# Altium schematic symbol library IP5328P BMS.SchLib: 26 symbols
Pins are listed as number, name and electrical type; pins without a type are passive.

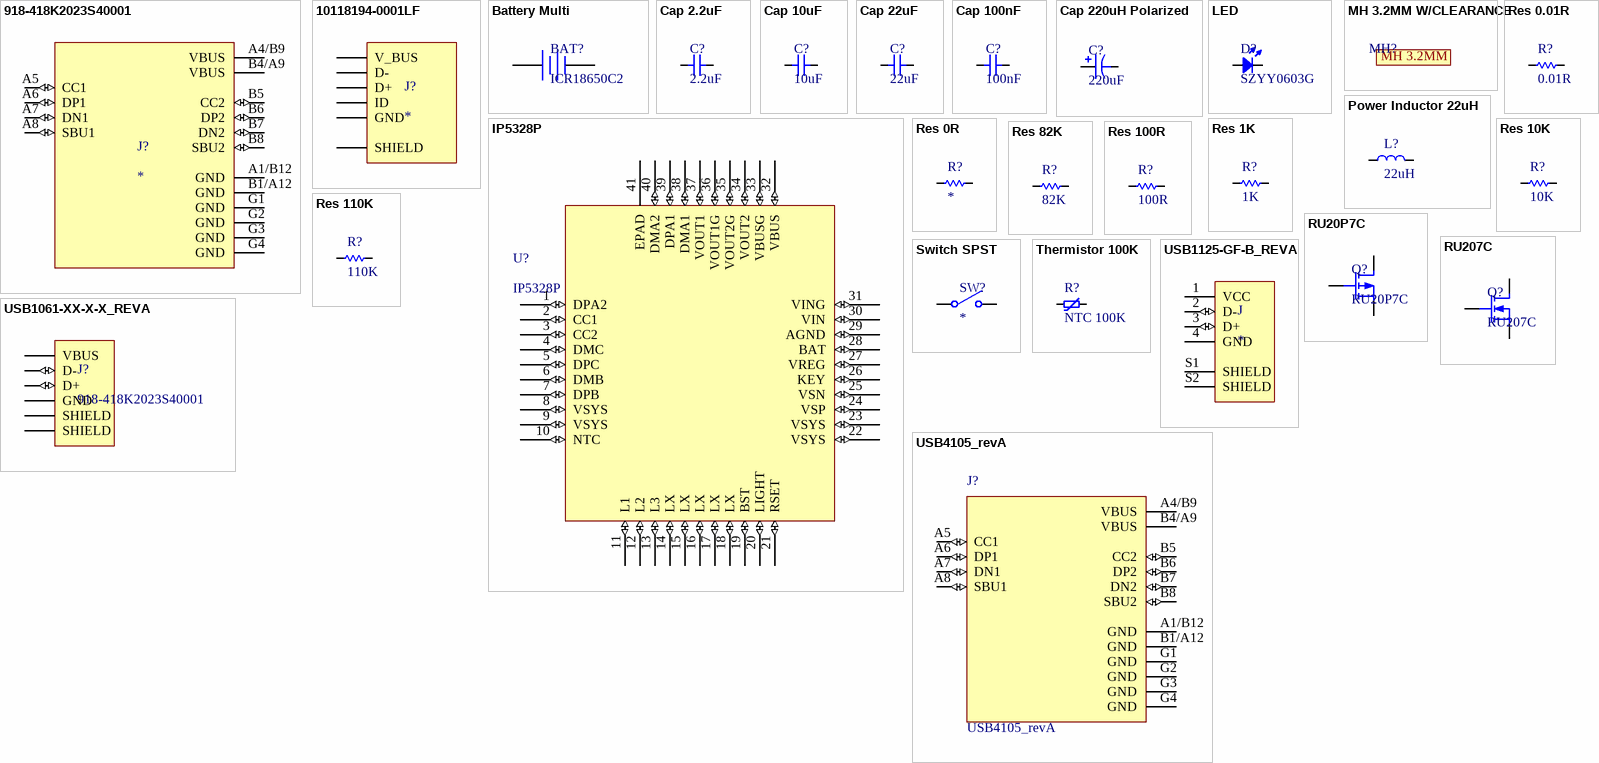
[diagram p0: symbols 918-418K2023S40001 to USB4105_revA]

## 918-418K2023S40001
designator J?
3A 1 16 Female Type-C SMD USB Connectors ROHS; Mfg: Jing Extension of the Electronic Co.; Mfg PN: 918-418K2023S40001; Vendor: JLCPCB; Vendor PN: C167321
footprint 918-418K2023S40001
pins: A1/B12 GND (power), A4/B9 VBUS (power), A5 CC1 (io), A6 DP1 (io), A7 DN1 (io), A8 SBU1 (io), B1/A12 GND (power), B4/A9 VBUS (power), B5 CC2 (io), B6 DP2 (io), B7 DN2 (io), B8 SBU2 (io), G1 GND (power), G2 GND (power), G3 GND (power), G4 GND (power)

## 10118194-0001LF
designator J?
USB - micro B USB 2.0 Receptacle Connector 5 Position Surface Mount, Right Angle; Through Hole; MF: Amphenol ICC; MP: 10118194-0001LF; Package: None; Price: None; Availability: Unavailable; SnapEDA_Link: https://www.snapeda.com/parts/10118194-0001LF/Amphenol%20FCI/view-part/1413308/?ref=snap; Value: *
footprint AMPHENOL_10118194-0001LF
pins: 1 V_BUS, 2 D-, 3 D+, 4 ID, 5 GND, S1 SHIELD

## Battery Multi
designator BAT?, comment ICR18650C2
Lithium Ion ICR18650 C2 2800mAh
footprint Battery Wire Pads
pins: 1 +, 2 -

## Cap 2.2uF
designator C?, comment 2.2uF
25V 2.2uF X5R ±10% 0805 Multilayer Ceramic Capacitors MLCC - SMD/SMT ROHS; Vendor: JLCPCB; Vendor PN: C87994; Mfg: Samsung Electro-Mechanics; Mfg PN: CL21A225KAFNNNE
footprint CAP 2012[0805] (Capacitor, NP, 2012[0805])
pins: 1, 2

## Cap 10uF
designator C?, comment 10uF
X5R 25V ±10% 10uF 0805 Multilayer Ceramic Capacitors MLCC - SMD/SMT ROHS; Vendor: JLCPCB; Vendor PN: C15850; Mfg: Samsung Electro-Mechanics; Mfg PN: CL21A106KAYNNNE
footprint CAP 2012[0805] (Capacitor, NP, 2012[0805])
pins: 1, 2

## Cap 22uF
designator C?, comment 22uF
X5R 25V ±20% 22uF 0805 Multilayer Ceramic Capacitors MLCC - SMD/SMT ROHS; Vendor: JLCPCB; Vendor PN: C45783; Mfg: Samsung Electro-Mechanics; Mfg PN: CL21A226MAQNNNE
footprint CAP 2012[0805] (Capacitor, NP, 2012[0805])
pins: 1, 2

## Cap 100nF
designator C?, comment 100nF
100V 100nF X7R ±10% 0805 Multilayer Ceramic Capacitors MLCC - SMD/SMT ROHS; Vendor: JLCPCB; Vendor PN: C28233; Mfg: Samsung Electro-Mechanics; Mfg PN: CL21B104KCFNNNE
footprint CAP 2012[0805] (Capacitor, NP, 2012[0805])
pins: 1, 2

## Cap 220uH Polarized
designator C?, comment 220uF
footprint Capacitor
pins: 1, 2

## IP5328P
designator U?
QFN-40_6x6x05P Battery Management ICs ROHS; Mfg: INJOINIC; Vendor: JLCPCB; Vendor PN: C188809; Mfg PN: IP5328P
footprint QFN-40 6x6mm EP (6mm x 6mm QFN-40 w/exposed pad)
pins: 1 DPA2 (io), 2 CC1 (io), 3 CC2 (io), 4 DMC (io), 5 DPC (io), 6 DMB (io), 7 DPB (io), 8 VSYS (io), 9 VSYS (io), 10 NTC (io), 11 L1 (io), 12 L2 (io), 13 L3 (io), 14 LX (io), 15 LX (io), 16 LX (io), 17 LX (io), 18 LX (io), 19 BST (io), 20 LIGHT (io), 21 RSET (io), 22 VSYS (io), 23 VSYS (io), 24 VSP (io), 25 VSN (io), 26 KEY (io), 27 VREG (io), 28 BAT (io), 29 AGND (io), 30 VIN (io), 31 VING (io), 32 VBUS (io), 33 VBUSG (io), 34 VOUT2 (io), 35 VOUT2G (io), 36 VOUT1G (io), 37 VOUT1 (io), 38 DMA1 (io), 39 DPA1 (io), 40 DMA2 (io), 41 EPAD (power)

## LED
designator D?, comment SZYY0603G
Emerald 0603 Light Emitting Diodes (LED) ROHS; Mfg: Yongyu Photoelectric; Vendor: JLCPCB; Vendor PN: C434420; Mfg PN: SZYY0603G
footprint LED 0603 (SMT LED w/0603 footprint)
pins: 1 A, 2 K

## MH 3.2MM W/CLEARANCE
designator MH?  (value not drawn)
footprint 3.2mm Mounting Hole w/clearance (3.2mm mounting hole with 125mil clearance)
text: MH 3.2MM

## Power Inductor 22uH
designator L?, comment 22uH
10A 2.2uH ±20% 6.6mΩ SMD,11.5x10x5mm Power Inductors ROHS; Mfg: YJYCOIN; Mfg PN: YSPI1050-2R2M; Vendor: JLCPCB; Vendor PN: C497893
footprint YSPI1050-2R2M (Precision Wire Wound Inductor, 2-Leads, Body 11.50x10.00mm, IPC Medium Density)
pins: 1, 2

## Res 0.01R
designator R?, comment 0.01R
±1% 1/2W Thick Film Resistors 200V ±1500ppm/℃ -55℃~+155℃ 0.01Ω 1210 Chip Resistor - Surface Mount ROHS; Vendor: JLCPCB; Vendor PN: C159310; Mfg: RALEC; Mfg PN: RTT12R010FTP
footprint RES 3225[1210] (Resistor - 3225[1210])
pins: 1, 2

## Res 0R
designator R?
footprint RES 1608[0603] EMPTY (Resistor 1608[0603])
pins: 1, 2

## Res 1K
designator R?, comment 1K
±1% 1/10W Thick Film Resistors 75V ±100ppm/℃ -55℃~+155℃ 1kΩ 0603 Chip Resistor - Surface Mount ROHS; Vendor: JLCPCB; Vendor PN: C21190; Mfg: UNI-ROYAL(Uniroyal Elec); Mfg PN: 0603WAF1001T5E
footprint RES 1608[0603] (Resistor 1608[0603])
pins: 1, 2

## Res 10K
designator R?, comment 10K
±1% 1/10W Thick Film Resistors 75V ±100ppm/℃ -55℃~+155℃ 10kΩ 0603 Chip Resistor - Surface Mount ROHS; Vendor: JLCPCB; Vendor PN: C25804; Mfg: UNI-ROYAL(Uniroyal Elec); Mfg PN: 0603WAF1002T5E
footprint RES 1608[0603] (Resistor 1608[0603])
pins: 1, 2

## Res 82K
designator R?, comment 82K
±1% 1/10W Thick Film Resistors 75V ±100ppm/℃ -55℃~+155℃ 82kΩ 0603 Chip Resistor - Surface Mount ROHS; Vendor: JLCPCB; Vendor PN: C23254; Mfg: UNI-ROYAL(Uniroyal Elec); Mfg PN: 0603WAF8202T5E
footprint RES 1608[0603] (Resistor 1608[0603])
pins: 1, 2

## Res 100R
designator R?, comment 100R
±1% 1/10W Thick Film Resistors 75V ±200ppm/℃ -55℃~+155℃ 100Ω 0603 Chip Resistor - Surface Mount ROHS; Vendor: JLCPCB; Vendor PN: C22775; Mfg: UNI-ROYAL(Uniroyal Elec); Mfg PN: 0603WAF1000T5E
footprint RES 1608[0603] (Resistor 1608[0603])
pins: 1, 2

## Res 110K
designator R?, comment 110K
±1% 1/10W Thick Film Resistors 75V ±100ppm/℃ -55℃~+155℃ 110kΩ 0603 Chip Resistor - Surface Mount ROHS; Vendor: JLCPCB; Vendor PN: C25805; Mfg: UNI-ROYAL(Uniroyal Elec); Mfg PN: 0603WAF1103T5E
footprint RES 1608[0603] (Resistor 1608[0603])
pins: 1, 2

## RU20P7C
designator Q?
20V 5A 28mΩ@4.5V,5A 1.3W 1.1V@250μA P Channel SOT-23(SOT-23-3) MOSFETs ROHS; Mfg: Shenzhen ruichips Semicon; Vendor: LCSC; Vendor PN: C181984; Mfg PN: RU20P7C
footprint SOT-23-3 (SOT-23-3 (standard pin numbering))
pins: 1 D, 2 G, 3 S

## RU207C
designator Q?
SOT-23-3 MOSFETs ROHS 20V/6A,; Mfg: Shenzhen ruichips Semicon; Vendor: LCSC; Vendor PN: C515680; Mfg PN: RU207C
footprint SOT-23-3 (SOT-23-3 (standard pin numbering))
pins: 1 D, 2 G, 3 S

## Switch SPST
designator SW?
Tactile Switch SPST-NO Top Actuated Surface Mount; Mfg: E-Switch; Mfg PN: TL3305AF260QG; Vendor: Digikey; Vendor PN: EG5353TR-ND
footprint TACTILE SW NO (Normally-open tactile, PTH, TE 1825910-2 or equiv)
pins: 1 COMMON, 2 NO

## Thermistor 100K
designator R?, comment NTC 100K
THERM NTC 100KOHM 4250K BEAD; Mfg: Murata Electronics; Mfg PN: NXFT15WF104FA1B025; Vendor: Digikey; Vendor PN: 490-11856-ND
footprint temp through hole component
pins: 1, 2

## USB1061-XX-X-X_REVA
designator J?, comment 918-418K2023S40001
USB-A _USB TYPE-A_ USB 2.0 Plug Connector 4 Position Board Edge, Cutout; Surface Mount; Through Hole, Right Angle; Mfg: Global Connector Technology; Mfg PN: USB1125-GF-B; Vendor: Digikey; Vendor PN: 2073-USB1125-GF-B-ND
footprint GCT_USB1061-XX-X-X_REVA
pins: 1 VBUS (power), 2 D- (io), 3 D+ (io), 4 GND (power), 5 SHIELD (power), 6 SHIELD (power)

## USB1125-GF-B_REVA
designator J
USB 2.0 Receptacle, Type A,Through Hole, Horizontal, Top Mount, Without Flange; MP: USB1125-GF-B; MF: Global Connector Technology; SnapEDA_Link: https://www.snapeda.com/parts/USB1125-GF-B/Global%20Connector%20Technology/view-part/4792084/?ref=snap; Value: *; Availability: Unavailable; Package: Package; Price: None
footprint GCT_USB1125-GF-B_REVA
pins: 1 VCC (power), 2 D- (io), 3 D+ (io), 4 GND (power), S1 SHIELD, S2 SHIELD

## USB4105_revA
designator J?
USB Type C Receptacle for USB 2.0 / SMT Type, PCB Top Mount; MF: Global Connector Technology; MP: USB4105; SnapEDA_Link: https://www.snapeda.com/parts/USB4105/Global%20Connector%20Technology/view-part/?ref=snap; Price: None; Package: Package Analog Devices; Availability: Unavailable; Value: *
footprint *GCT_USB4105_revA
pins: A1/B12 GND (power), A4/B9 VBUS (power), A5 CC1 (io), A6 DP1 (io), A7 DN1 (io), A8 SBU1 (io), B1/A12 GND (power), B4/A9 VBUS (power), B5 CC2 (io), B6 DP2 (io), B7 DN2 (io), B8 SBU2 (io), G1 GND (power), G2 GND (power), G3 GND (power), G4 GND (power)